# Altium footprint library OLED_1.3inch_I2C.PcbLib: 1 footprints
Each footprint in its own frame and in the unit in brackets; x right, y up, seen from the top. Pads: shape width x height; smd on the part's side, far side on the other; paste and mask are expansions set on the pad; w line width, h text height; cw(c..) or ccw(c..) is an arc to the next point about the centre after c.
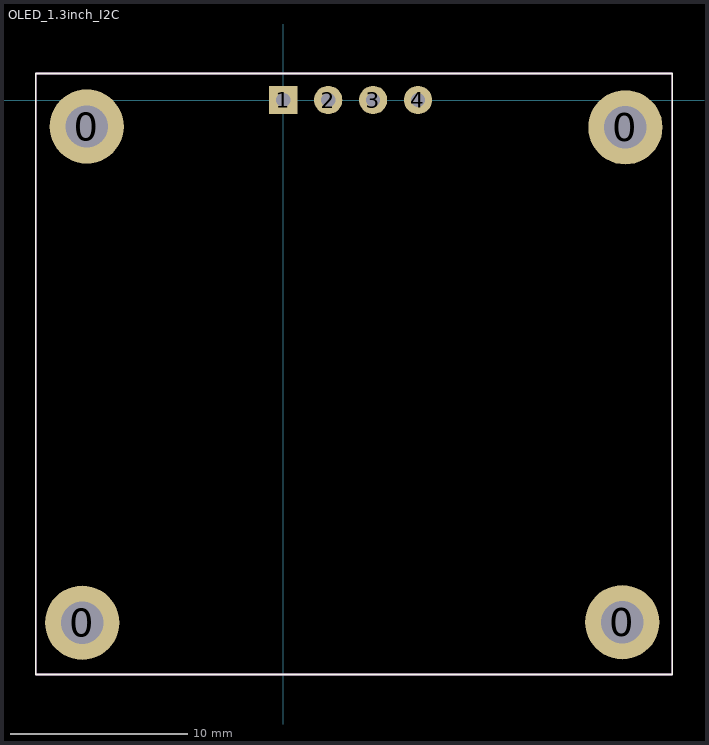
[diagram p0: the footprint, top view; thin cyan lines are the x and y axes]

## OLED_1.3inch_I2C [mm]
pads (8):
  round 4.2 hole 2.4 mask+0.05: 0(-11.379,-29.566) 0(-11.125,-1.499) 0(19.177,-29.54) 0(19.355,-1.549)
  rect 1.6x1.6 hole 0.8 mask+0.05: 1(0,0)
  round 1.6 hole 0.8 mask+0.05: 2(2.54,0) 3(5.08,0) 4(7.62,0)
Top Overlay:
  lines w0.1: -14,-32.5 22,-32.5 22,1.5 -14,1.5 -14,-32.5
Top Courtyard:
  lines w0.1: -14,-32.5 -14,1.5 22,1.5 22,-32.5 -14,-32.5
3D body "OLED_1.3inch_I2C.sldprt": height 5.8, standoff -6, extent -13.825,-32.3 21.825,1.3